# Altium schematic symbol library 10k5TurnPot.SchLib: 1 symbol
Pins are listed as number, name and electrical type; pins without a type are passive.

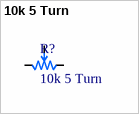
[diagram p0: symbol 10k 5 Turn]

## 10k 5 Turn
designator R?
TRIMMER 10K OHM 0.25W SMD; Supplier: Digikey; Supplier Part Number: 3214X-1-103ECT-ND
footprint 10k5TurnPot
pins: 1, 2, 3